# Altium integrated library 1N4001-T.IntLib: 1 symbol
Pins are listed as number, name and electrical type; pins without a type are passive.

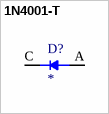
[diagram p0: symbol 1N4001-T]

## 1N4001-T
designator D?
Diode, Standard Recovery, 1a, 50v, Do-204al-2, Full Reel; MP: 1N4001-T; Value: *; Availability: Unavailable; Price: None; Package: None
footprint DIOAD953W69L521D272
pins: A, C